# Altium footprint library LIS3DH.PcbLib: 1 footprints
Each footprint in its own frame and in the unit in brackets; x right, y up, seen from the top. Pads: shape width x height; smd on the part's side, far side on the other; paste and mask are expansions set on the pad; w line width, h text height; cw(c..) or ccw(c..) is an arc to the next point about the centre after c.
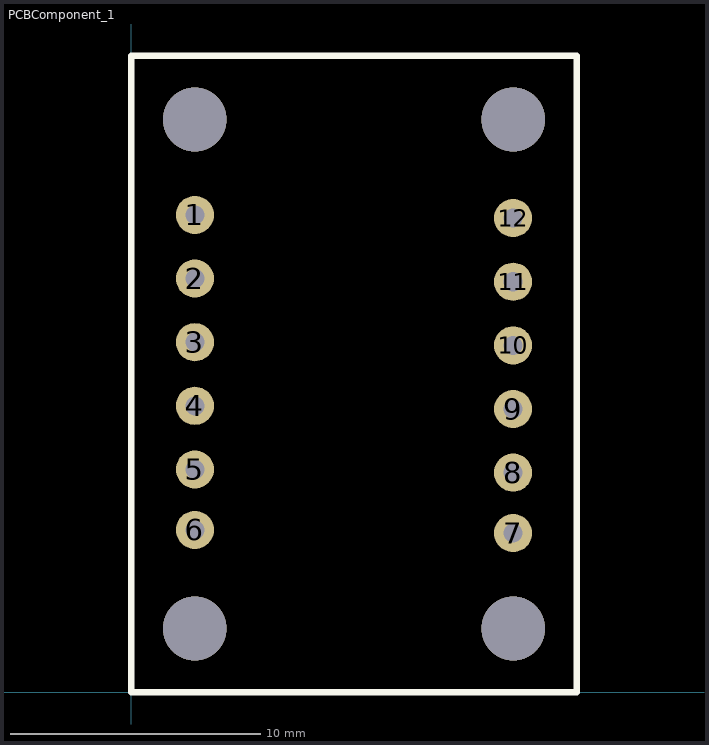
[diagram p0: the footprint, top view; thin cyan lines are the x and y axes]

## PCBComponent_1 [mil]
pads (12):
  round 60 hole 30: 1(100,750) 2(100,650) 3(100,550) 4(100,450) 5(100,350) 6(100,255) 7(600,250) 8(600,345) 9(600,445) 10(600,545) 11(600,645) 12(600,745)
via 100,900 diameter 100 hole 100
via 100,100 diameter 100 hole 100
via 600,100 diameter 100 hole 100
via 600,900 diameter 100 hole 100
Top Overlay:
  lines w10: 0,0 0,1000 700,1000 700,0 0,0
3D body "2809 LIS3DH.step": height 178.35, standoff 0, extent 0,0 700,1000